# Altium integrated library BUCK convertor.IntLib: 1 symbol
Pins are listed as number, name and electrical type; pins without a type are passive.

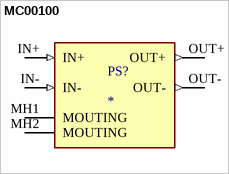
[diagram p0: symbol MC00100]

## MC00100
designator PS?
DC-DC LM2596 Step Down Adjustable Converter Power Supply Module 1.3V-35V; MF: YKS; MP: MC00100; SnapEDA_Link: https://www.snapeda.com/parts/MC00100/YKS/view-part/?ref=snap; Package: None; Value: *; Check_prices: https://www.snapeda.com/parts/MC00100/YKS/view-part/?ref=eda
footprint CONV_MC00100
pins: IN+ (in), IN- (in), MH1 MOUTING, MH2 MOUTING, OUT+ (out), OUT- (out)